# Altium footprint library Relay.PcbLib: 1 footprints
Each footprint in its own frame and in the unit in brackets; x right, y up, seen from the top. Pads: shape width x height; smd on the part's side, far side on the other; paste and mask are expansions set on the pad; w line width, h text height; cw(c..) or ccw(c..) is an arc to the next point about the centre after c.
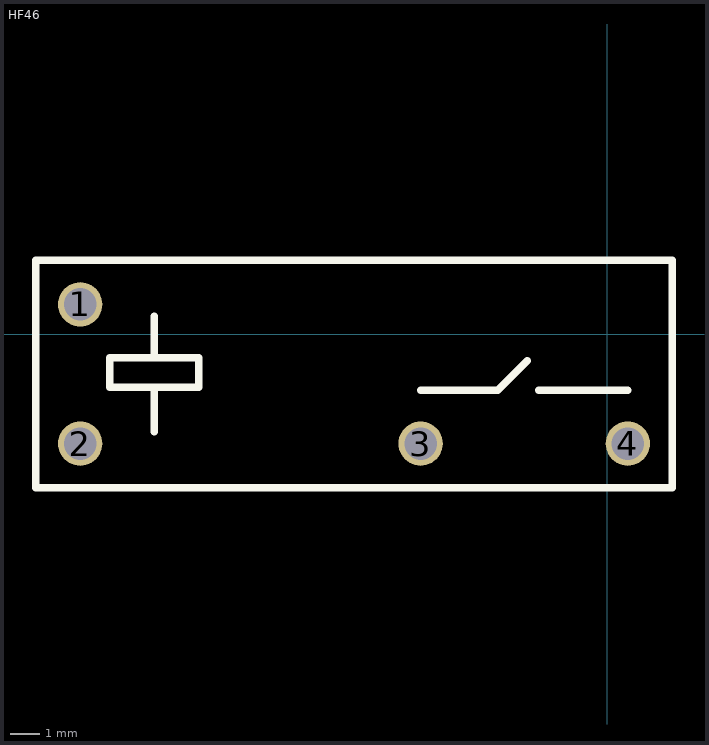
[diagram p0: the footprint, top view; thin cyan lines are the x and y axes]

## HF46 [mm]
pads (4):
  round 1.5 hole 1.1: 1(-17.8,1) 2(-17.8,-3.7) 3(-6.3,-3.7) 4(0.7,-3.7)
Top Overlay:
  lines w0.254: -15.3,-3.3 -15.3,-2.3 -15.3,-1.8 ; -15.3,-0.8 -15.3,0.6 ; -6.3,-1.9 -4.4,-1.9 -3.7,-1.9 -2.7,-0.9 ; -2.3,-1.9 0.7,-1.9 ; -15.3,-1.8 -13.8,-1.8 -13.8,-0.8 -16.8,-0.8 -16.8,-1.8 -15.3,-1.8 ; -19.3,-5.2 2.2,-5.2 2.2,-3.7 2.2,2.5 -19.3,2.5 -19.3,2.3 -19.3,-3.7 -19.3,-5.2
3D body "User Library-46F-1.STEP": height 14.79, standoff -3.92, extent -18.8,-4.9 1.6,2.1